# Altium schematic symbol library Components - 09.09.24 - 15.36.SchLib: 1 symbol
Pins are listed as number, name and electrical type; pins without a type are passive.

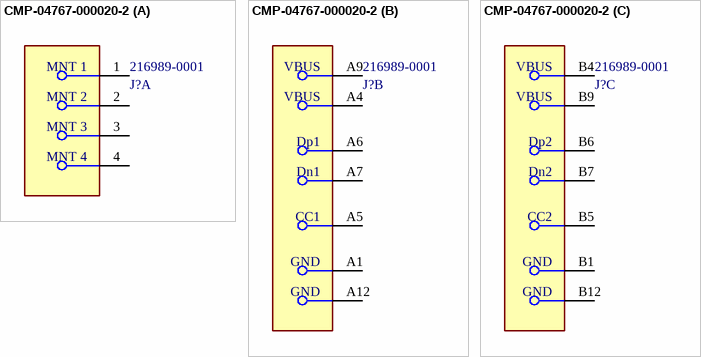
[diagram p0: symbol CMP-04767-000020-2]

## CMP-04767-000020-2
designator J?, comment 216989-0001
CONN RCPT USB2.0 TYPE C 24POS RA; NexarPartId: 117235448; Gender: Receptacle; Number of Contacts: 14; Voltage Rating: 30V; Current Rating: 1.25A; USB Standard: USB 2.0; Contact Material: Gold, Nickel; Height: 9.14mm; Schedule B: 8536695050|8536695050|8536695050|8536695050|8536695050|8536695050|8536695050|8536695050|8536695050, 8536695050|8536695050|8536695050|8536695050|8536695050|8536695050|8536695050|8536695050|8536695050|8536695050, 8536695050|8536695050|8536695050|8536695050|8536695050|8536695050|8536695050|8536695050|8536695050|8536695050|8536695050, 8536695050|8536695050|8536695050|8536695050|8536695050|8536695050|8536695050|8536695050|8536695050|8536695050|8536695050|8536695050; Max Operating Temperature: 85°C; Min Operating Temperature: -40°C
footprint PCBComponent_1
part A pins: 1 MNT 1, 2 MNT 2, 3 MNT 3, 4 MNT 4
part B pins: A1 GND (power), A4 VBUS, A5 CC1, A6 Dp1, A7 Dn1, A9 VBUS (power), A12 GND (power)
part C pins: B1 GND (power), B4 VBUS, B5 CC2, B6 Dp2, B7 Dn2, B9 VBUS, B12 GND (power)